# EAGLE library part IV-17 (library vfd-robjen)
IV-17 / IV-4 Alphanumeric Startburst Display. 16 segment star burst with 2 commas either side Baisc data: Filament 2.4 V, 45 mA Anode Segment 25 V 2.5 mA pulse 50 V Anode Grid 25 V 4 mA pulse 50 V
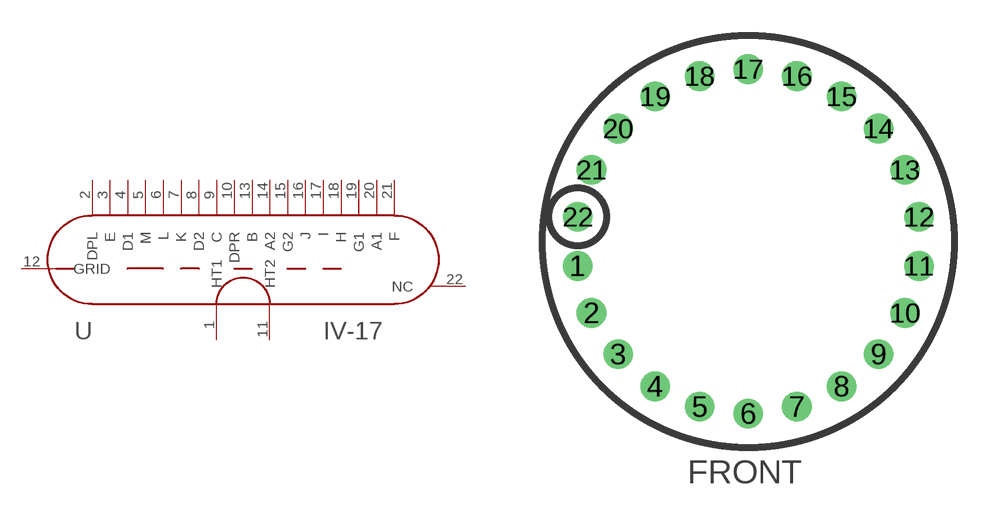
[diagram p0: symbol with the pads of IV-17; footprint IV-17]

Designator prefix -

## IV-17IV-17  [IV-17]
1  HT1  pwr
2  DPL  in
3  E  in
4  D1  in
5  M  in
6  L  in
7  K  in
8  D2  in
9  C  in
10  DPR  in
11  HT2  pwr
12  GRID  in
13  B  in
14  A2  in
15  G2  in
16  J  in
17  I  in
18  H  in
19  G1  in
20  A1  in
21  F  in
22  NC  nc

## Footprint IV-17 (pad centres in mm)
Eagle SCR autogenerated 22 pin Nixie socket
drill 0.735: 1 -7.15,-1.028; 2 -6.571,-3.001; 3 -5.459,-4.73; 4 -3.905,-6.077; 5 -2.035,-6.931; 6 0,-7.223; 7 2.035,-6.931; 8 3.905,-6.077; 9 5.459,-4.73; 10 6.571,-3.001; 11 7.15,-1.028; 12 7.15,1.028; 13 6.571,3.001; 14 5.459,4.73; 15 3.905,6.077; 16 2.035,6.931; 17 0,7.223; 18 -2.035,6.931; 19 -3.905,6.077; 20 -5.459,4.73; 21 -6.571,3.001; 22 -7.15,1.028